# Altium footprint library 7343-31.PcbLib: 1 footprints
Each footprint in its own frame and in the unit in brackets; x right, y up, seen from the top. Pads: shape width x height; smd on the part's side, far side on the other; paste and mask are expansions set on the pad; w line width, h text height; cw(c..) or ccw(c..) is an arc to the next point about the centre after c.
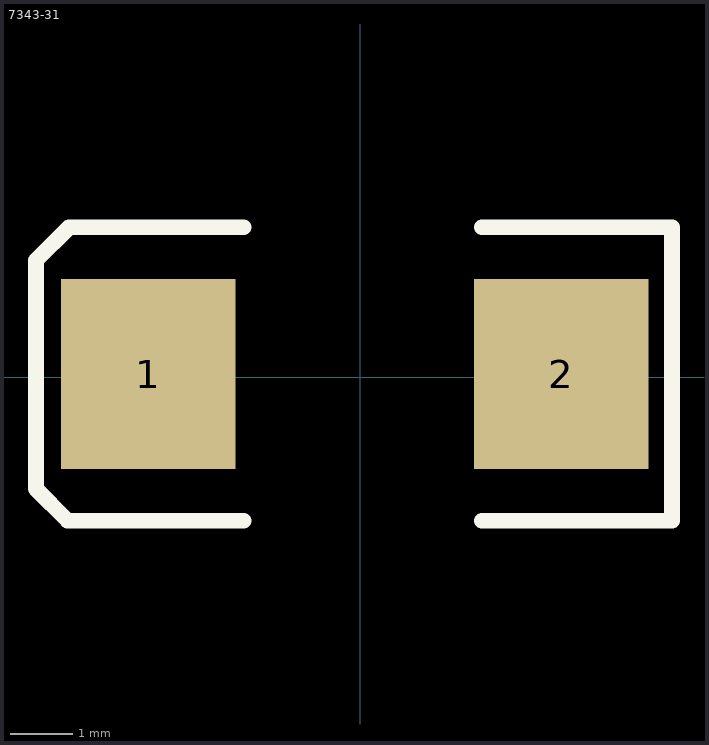
[diagram p0: the footprint, top view; thin cyan lines are the x and y axes]

## 7343-31 [mil]
height 125
pads (2):
  rect 110x120 smd: 1(-133.48,2) 2(126.52,2)
TopOverlay:
  lines w10: -184.43,-90.31 -204.43,-70.31 -204.43,73.55 -183.48,94.5 -73.48,94.5 ; -183.48,-90.5 -73.48,-90.5 ; 76.52,-90.5 196.52,-90.5 196.52,94.5 76.52,94.5
Mechanical4:
  text ".1" at -150.48,2 h1
  text ".1" at -120.48,2 h1
3D body: height 128.05, standoff 6, extent -151.36,-90.09 147.86,91.01